# EAGLE library part 74*244 (library F030NG)
Octal BUFFER and LINE DRIVER, 3-state
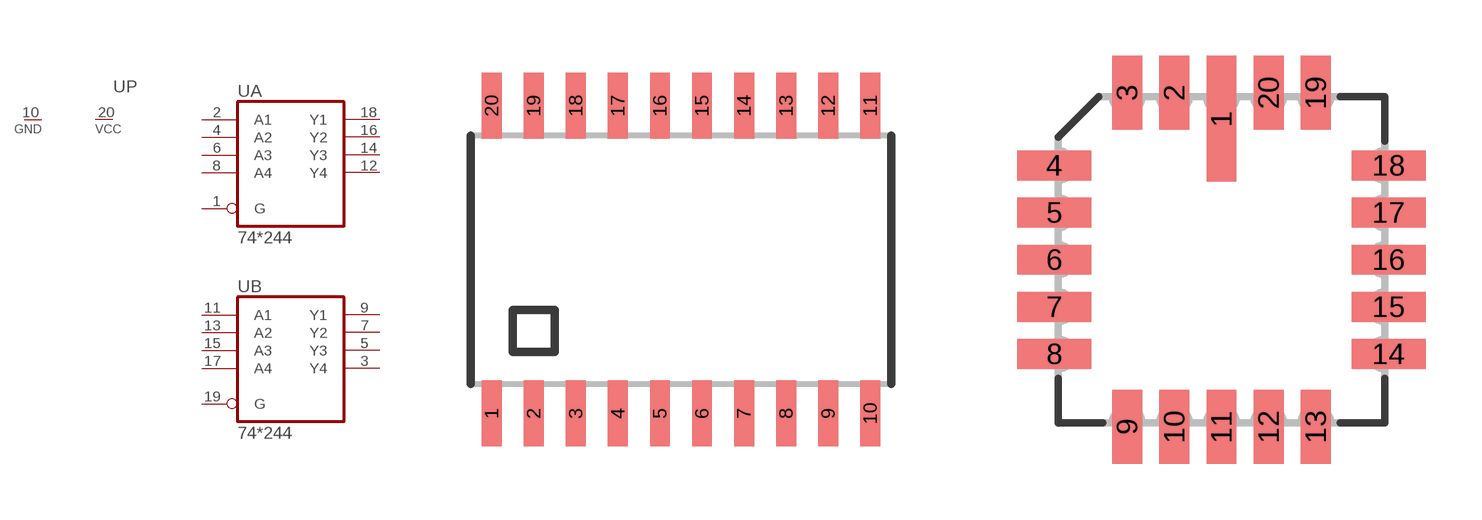
[diagram p51: symbol with the pads of SOIC20; footprints SOIC20, LCC20]

Designator prefix U; gates A=74244 B=74244 P=1VCC_1GND

## 74AC244D(W), 74ACT244D(W), 74HC244D(W), 74HCT244D(W), 74LS244D(W), 74S244D(W)  [SOIC20]
1  A:G  in
2  A:A1  in
3  B:Y4  hiz
4  A:A2  in
5  B:Y3  hiz
6  A:A3  in
7  B:Y2  hiz
8  A:A4  in
9  B:Y1  hiz
10  P:GND  pwr
11  B:A1  in
12  A:Y4  hiz
13  B:A2  in
14  A:Y3  hiz
15  B:A3  in
16  A:Y2  hiz
17  B:A4  in
18  A:Y1  hiz
19  B:G  in
20  P:VCC  pwr

## 74AC244FK, 74ACT244FK, 74HC244FK, 74HCT244FK, 74LS244FK, 74S244FK  [LCC20]
Pads as for SOIC20

## 74244PWR  [TSSOP20]
Pads as for SOIC20

## 74244D, 74AC244D, 74ACT244D, 74HC244D, 74HCT244D, 74LS244D  [SO20]
Pads as for SOIC20

## Footprint SOIC20 (pad centres in mm)
SMALL OUTLINE INTEGRATED CIRCUIT 7,6 mm wide body
smd 0.6 x 2: 1 -5.715,-4.65; 2 -4.445,-4.65; 3 -3.175,-4.65; 4 -1.905,-4.65; 5 -0.635,-4.65; 6 0.635,-4.65; 7 1.905,-4.65; 8 3.175,-4.65; 9 4.445,-4.65; 10 5.715,-4.65; 11 5.715,4.65; 12 4.445,4.65; 13 3.175,4.65; 14 1.905,4.65; 15 0.635,4.65; 16 -0.635,4.65; 17 -1.905,4.65; 18 -3.175,4.65; 19 -4.445,4.65; 20 -5.715,4.65

## Footprint LCC20 (pad centres in mm)
Leadless Chip Carrier Ceramic Package
smd 0.8 x 3.4: 1 0,3.8
smd 0.8 x 2: 2 -1.27,4.5; 3 -2.54,4.5; 9 -2.54,-4.5; 10 -1.27,-4.5; 11 0,-4.5; 12 1.27,-4.5; 13 2.54,-4.5; 19 2.54,4.5; 20 1.27,4.5
smd 2 x 0.8: 4 -4.5,2.54; 5 -4.5,1.27; 6 -4.5,0; 7 -4.5,-1.27; 8 -4.5,-2.54; 14 4.5,-2.54; 15 4.5,-1.27; 16 4.5,0; 17 4.5,1.27; 18 4.5,2.54

## Footprint TSSOP20 (pad centres in mm)
Shrink Small Outline Plastic 16
smd 0.305 x 0.991: 1 -2.925,-2.918; 2 -2.275,-2.918; 3 -1.625,-2.918; 4 -0.975,-2.918; 5 -0.325,-2.918; 6 0.325,-2.918; 7 0.975,-2.918; 8 1.625,-2.918; 9 2.275,-2.918; 10 2.925,-2.918; 11 2.925,2.918; 12 2.275,2.918; 13 1.625,2.918; 14 0.975,2.918; 15 0.325,2.918; 16 -0.325,2.918; 17 -0.975,2.918; 18 -1.625,2.918; 19 -2.275,2.918; 20 -2.925,2.918

## Footprint SO20 (pad centres in mm)
SMALL OUTLINE INTEGRATED CIRCUIT body 5.3 mm/JEDEC MS-012AA
smd 0.6 x 2.2: 1 -5.715,-3.35; 2 -4.445,-3.35; 3 -3.175,-3.35; 4 -1.905,-3.35; 5 -0.635,-3.35; 6 0.635,-3.35; 7 1.905,-3.35; 8 3.175,-3.35; 9 4.445,-3.35; 10 5.715,-3.35; 11 5.715,3.35; 12 4.445,3.35; 13 3.175,3.35; 14 1.905,3.35; 15 0.635,3.35; 16 -0.635,3.35; 17 -1.905,3.35; 18 -3.175,3.35; 19 -4.445,3.35; 20 -5.715,3.35